# EAGLE library part MM88C30M (library Fairchild_By_element14_Batch_1)
Quad Single-Ended Line Driver ? Dual Differential Line Driver
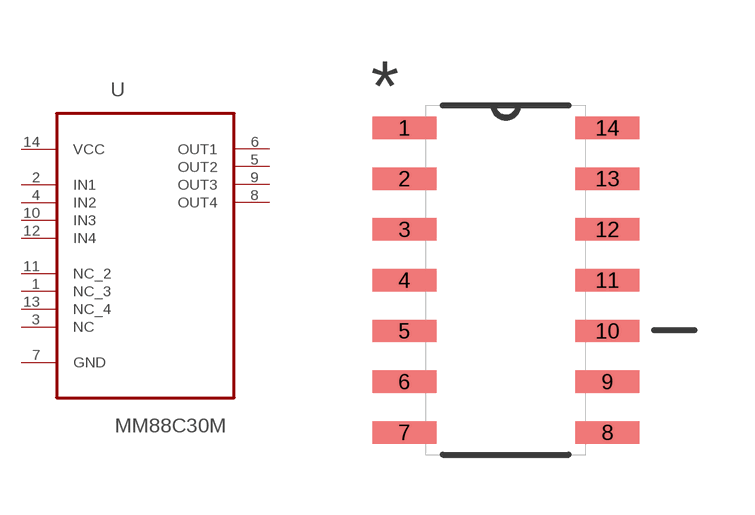
[diagram p336: symbol with the pads of SOIC127P600X175-14N; footprint SOIC127P600X175-14N]

Designator prefix U

## MM88C30M (MPN: MM88C30M; OC_FARNELL: -; OC_NEWARK: 78K6087; PACKAGE: SOIC-14; SUPPLIER: Fairchild)  [SOIC127P600X175-14N]
1  NC_3  nc
2  IN1  in
3  NC  nc
4  IN2  in
5  OUT2  out
6  OUT1  out
7  GND  pas
8  OUT4  out
9  OUT3  out
10  IN3  out
11  NC_2  nc
12  IN4  in
13  NC_4  nc
14  VCC  pwr

## Footprint SOIC127P600X175-14N (pad centres in mm)
smd 1.6 x 0.559: 1 -2.54,3.81; 2 -2.54,2.54; 3 -2.54,1.27; 4 -2.54,0; 5 -2.54,-1.27; 6 -2.54,-2.54; 7 -2.54,-3.81; 8 2.54,-3.81; 9 2.54,-2.54; 10 2.54,-1.27; 11 2.54,0; 12 2.54,1.27; 13 2.54,2.54; 14 2.54,3.81